# Altium footprint library SHDR20W99P254_2X10_3302X889X947P.PcbLib: 1 footprints
Each footprint in its own frame and in the unit in brackets; x right, y up, seen from the top. Pads: shape width x height; smd on the part's side, far side on the other; paste and mask are expansions set on the pad; w line width, h text height; cw(c..) or ccw(c..) is an arc to the next point about the centre after c.
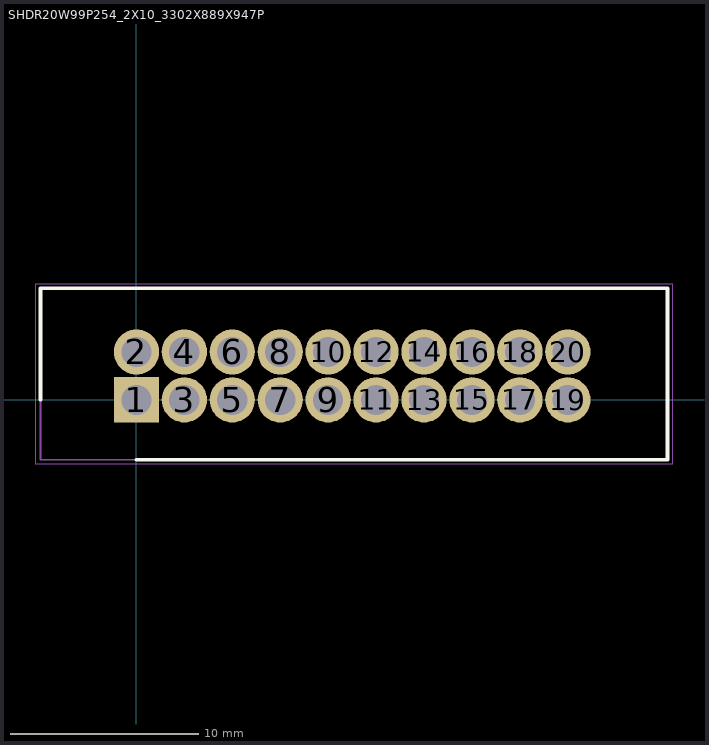
[diagram p0: the footprint, top view; thin cyan lines are the x and y axes]

## SHDR20W99P254_2X10_3302X889X947P [mm]
pads (20):
  rect 2.4x2.4 / inner round 2.4 / far side rect 2.4x2.4 hole 1.6: 1(0,0)
  round 2.4 hole 1.6: 2(0,2.54) 3(2.54,0) 4(2.54,2.54) 5(5.08,0) 6(5.08,2.54) 7(7.62,0) 8(7.62,2.54) 9(10.16,0) 10(10.16,2.54) 11(12.7,0) 12(12.7,2.54) 13(15.24,0) 14(15.24,2.54) 15(17.78,0) 16(17.78,2.54) 17(20.32,0) 18(20.32,2.54) 19(22.86,0) 20(22.86,2.54)
Top Overlay:
  lines w0.2: -5.08,0 -5.08,5.915 28.14,5.915 28.14,-3.175 0,-3.175
Mechanical 15:
  lines w0.1: -5.08,-3.175 -5.08,5.915 28.14,5.915 28.14,-3.175 -5.08,-3.175
Mechanical 20:
  lines w0.05: -5.33,-3.425 -5.33,6.165 28.39,6.165 28.39,-3.425 -5.33,-3.425